# Altium footprint library PCB - CONNECTOR - TE 7762301.PCBLIB: 1 footprints
Each footprint in its own frame and in the unit in brackets; x right, y up, seen from the top. Pads: shape width x height; smd on the part's side, far side on the other; paste and mask are expansions set on the pad; w line width, h text height; cw(c..) or ccw(c..) is an arc to the next point about the centre after c.
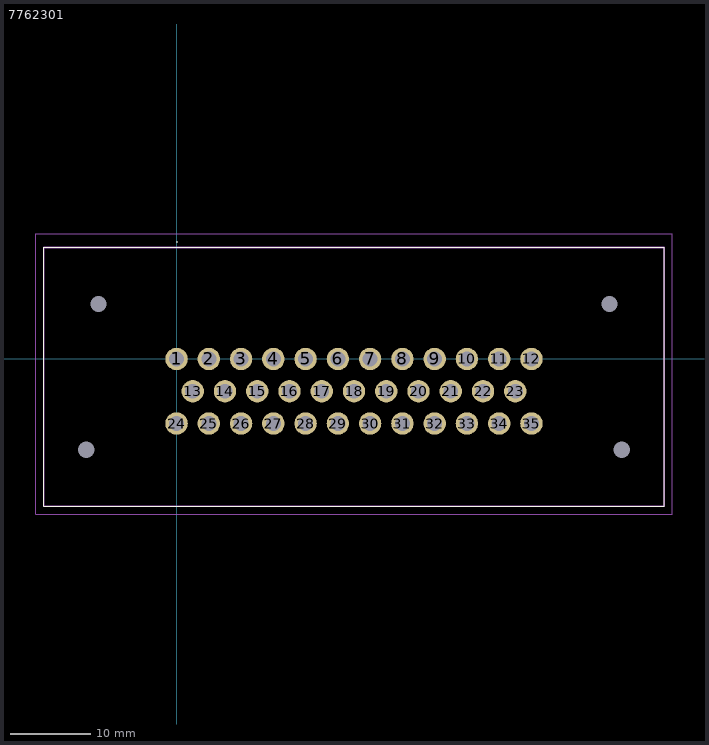
[diagram p0: the footprint, top view; thin cyan lines are the x and y axes]

## 7762301 [mm]
pads (39):
  round 2.775 hole 1.85: 1(0,0) 2(4,0) 3(8,0) 4(12,0) 5(16,0) 6(20,0) 7(24,0) 8(28,0) 9(32,0) 10(36,0) 11(40,0) 12(44,0) 13(2,-4) 14(6,-4) 15(10,-4) 16(14,-4) 17(18,-4) 18(22,-4) 19(26,-4) 20(30,-4) 21(34,-4) 22(38,-4) 23(42,-4) 24(0,-8) 25(4,-8) 26(8,-8) 27(12,-8) 28(16,-8) 29(20,-8) 30(24,-8) 31(28,-8) 32(32,-8) 33(36,-8) 34(40,-8) 35(44,-8)
  round 1 hole 2 unplated: MH1(-11.2,-11.25) MH2(-9.7,6.8) MH3(55.2,-11.25) MH4(53.7,6.8)
Top Overlay:
  lines w0.1: -16.45,-18.275 -16.45,13.825 60.45,13.825 60.45,-18.275 -16.45,-18.275 ; 0,14.5 cw(c0.05,14.5) 0.1,14.5 cw(c0.05,14.5) 0,14.5
Top Assembly:
  lines w0.2: -16.45,-18.275 60.45,-18.275 60.45,13.825 -16.45,13.825 -16.45,-18.275
Top Courtyard:
  lines w0.1: -17.45,-19.275 61.45,-19.275 61.45,15.55 -17.45,15.55 -17.45,-19.275
Top Designator:
  text ".Designator" at -17.145,18.034 h1
Top Value (Mech13):
  text ".Comment" at -17.399,16.764 h1
3D body "776230-1.stp": height 34.3, standoff -3.67, extent -16.45,-19.86 60.45,12.24